# Altium integrated library MCP6001-SC70-5.IntLib: 1 symbol
Pins are listed as number, name and electrical type; pins without a type are passive.

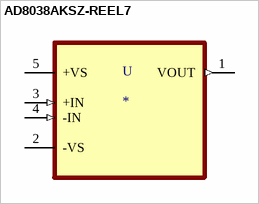
[diagram p0: symbol AD8038AKSZ-REEL7]

## AD8038AKSZ-REEL7
designator U
Voltage Feedback Amplifier 1 Circuit SC-70-5; MP: AD8038AKSZ-REEL7; MF: Analog Devices; SnapEDA_Link: https://www.snapeda.com/parts/AD8038AKSZ-REEL7/Analog%20Devices/view-part/267512/?ref=snap; Availability: Unavailable; Package: SC70-5 Analog Devices; Price: None; Value: *
footprint SOT65P210X110-5N
pins: 1 VOUT (out), 2 -VS (power), 3 +IN (in), 4 -IN (in), 5 +VS (power)